# EAGLE library part ADUM2401CRIZ (library IntegratedLib)
Isolador Digital 4 Canais (16-SOIC)
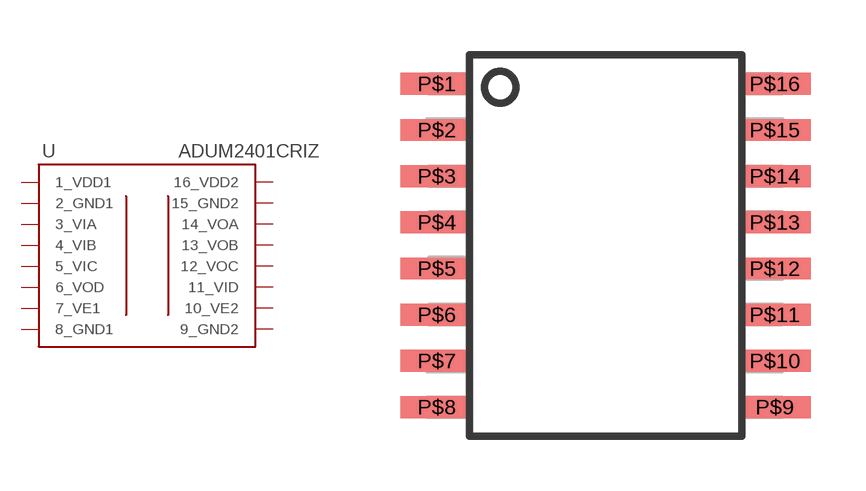
[diagram p32: symbol with the pads of SOIC-16; footprint SOIC-16]

Designator prefix U

## ADUM2401CRIZ (FABRICANTE: ANALOG DEVICES; PARTNUMBER: ADUM2401CRIZ; TIPO: CIRCUITO INTEGRADO)  [SOIC-16]
P$1  1_VDD1  pwr
P$2  2_GND1  pwr
P$3  3_VIA  in
P$4  4_VIB  in
P$5  5_VIC  in
P$6  6_VOD  out
P$7  7_VE1
P$8  8_GND1  pwr
P$9  9_GND2  pwr
P$10  10_VE2
P$11  11_VID  in
P$12  12_VOC  out
P$13  13_VOB  out
P$14  14_VOA  out
P$15  15_GND2  pwr
P$16  16_VDD2  pwr

## Footprint SOIC-16 (pad centres in mm)
smd 2 x 0.6: P$1 -4.65,4.445; P$2 -4.65,3.175; P$3 -4.65,1.905; P$4 -4.65,0.635; P$5 -4.65,-0.635; P$6 -4.65,-1.905; P$7 -4.65,-3.175; P$8 -4.65,-4.445; P$9 4.65,-4.445; P$10 4.65,-3.175; P$11 4.65,-1.905; P$12 4.65,-0.635; P$13 4.65,0.635; P$14 4.65,1.905; P$15 4.65,3.175; P$16 4.65,4.445